# Altium footprint library st-microelectronics.PCBLIB: 49 footprints (part 4 of 4)
Each footprint in its own frame and in the unit in brackets; x right, y up, seen from the top. Pads: shape width x height; smd on the part's side, far side on the other; paste and mask are expansions set on the pad; w line width, h text height; cw(c..) or ccw(c..) is an arc to the next point about the centre after c.
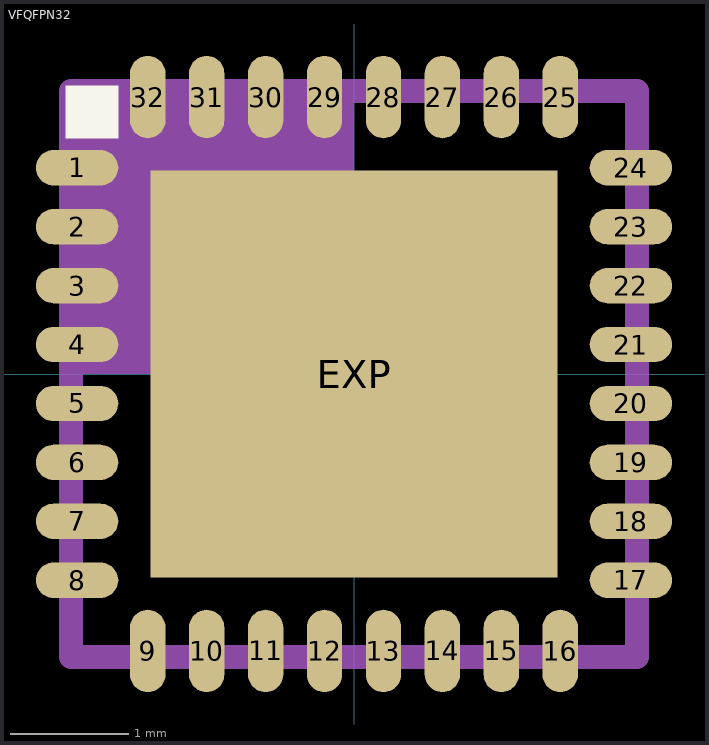
[diagram p3: the footprint, top view; thin cyan lines are the x and y axes]

## VFQFPN32 [mm]
pads (33):
  rrect100% 0.7x0.3 smd: 1(-2.35,1.75) 2(-2.35,1.25) 3(-2.35,0.75) 4(-2.35,0.25) 5(-2.35,-0.25) 6(-2.35,-0.75) 7(-2.35,-1.25) 8(-2.35,-1.75) 17(2.35,-1.75) 18(2.35,-1.25) 19(2.35,-0.75) 20(2.35,-0.25) 21(2.35,0.25) 22(2.35,0.75) 23(2.35,1.25) 24(2.35,1.75)
  rrect100% 0.3x0.7 smd: 9(-1.75,-2.35) 10(-1.25,-2.35) 11(-0.75,-2.35) 12(-0.25,-2.35) 13(0.25,-2.35) 14(0.75,-2.35) 15(1.25,-2.35) 16(1.75,-2.35) 25(1.75,2.35) 26(1.25,2.35) 27(0.75,2.35) 28(0.25,2.35) 29(-0.25,2.35) 30(-0.75,2.35) 31(-1.25,2.35) 32(-1.75,2.35)
  rect 3.45x3.45 smd: EXP(0,0)
Top Overlay:
  rectangle: -2.45,2 -2,2.45
Top Paste:
  rectangle: -1.5,0.25 -0.25,1.5
  rectangle: 0.25,0.25 1.5,1.5
  rectangle: 0.25,-1.5 1.5,-0.25
  rectangle: -1.5,-1.5 -0.25,-0.25
  lines w0.225: -2.55,-1.75 -2.15,-1.75 ; -2.55,-1.25 -2.15,-1.25 ; -2.55,-0.75 -2.15,-0.75 ; -2.55,-0.25 -2.15,-0.25 ; -2.55,0.25 -2.15,0.25 ; -2.55,0.75 -2.15,0.75 ; -2.55,1.25 -2.15,1.25 ; -2.55,1.75 -2.15,1.75 ; -1.75,-2.55 -1.75,-2.15 ; -1.75,2.15 -1.75,2.55 ; -1.25,-2.55 -1.25,-2.15 ; -1.25,2.15 -1.25,2.55 ; -0.75,-2.55 -0.75,-2.15 ; -0.75,2.15 -0.75,2.55 ; -0.25,-2.55 -0.25,-2.15 ; -0.25,2.15 -0.25,2.55 ; 0.25,-2.55 0.25,-2.15 ; 0.25,2.15 0.25,2.55 ; 0.75,-2.55 0.75,-2.15 ; 0.75,2.15 0.75,2.55 ; 1.25,-2.55 1.25,-2.15 ; 1.25,2.15 1.25,2.55 ; 1.75,-2.55 1.75,-2.15 ; 1.75,2.15 1.75,2.55 ; 2.15,-1.75 2.55,-1.75 ; 2.15,-1.25 2.55,-1.25 ; 2.15,-0.75 2.55,-0.75 ; 2.15,-0.25 2.55,-0.25 ; 2.15,0.25 2.55,0.25 ; 2.15,0.75 2.55,0.75 ; 2.15,1.25 2.55,1.25 ; 2.15,1.75 2.55,1.75
Top Solder:
  region: 0,0 0.254,0 0.254,0.254 0,0.254
  lines w0.35: -2.55,-1.75 -2.15,-1.75 ; -2.55,-1.25 -2.15,-1.25 ; -2.55,-0.75 -2.15,-0.75 ; -2.55,-0.25 -2.15,-0.25 ; -2.55,0.25 -2.15,0.25 ; -2.55,0.75 -2.15,0.75 ; -2.55,1.25 -2.15,1.25 ; -2.55,1.75 -2.15,1.75 ; -1.75,-2.55 -1.75,-2.15 ; -1.75,2.15 -1.75,2.55 ; -1.25,-2.55 -1.25,-2.15 ; -1.25,2.15 -1.25,2.55 ; -0.75,-2.55 -0.75,-2.15 ; -0.75,2.15 -0.75,2.55 ; -0.25,-2.55 -0.25,-2.15 ; -0.25,2.15 -0.25,2.55 ; 0.25,-2.55 0.25,-2.15 ; 0.25,2.15 0.25,2.55 ; 0.75,-2.55 0.75,-2.15 ; 0.75,2.15 0.75,2.55 ; 1.25,-2.55 1.25,-2.15 ; 1.25,2.15 1.25,2.55 ; 1.75,-2.55 1.75,-2.15 ; 1.75,2.15 1.75,2.55 ; 2.15,-1.75 2.55,-1.75 ; 2.15,-1.25 2.55,-1.25 ; 2.15,-0.75 2.55,-0.75 ; 2.15,-0.25 2.55,-0.25 ; 2.15,0.25 2.55,0.25 ; 2.15,0.75 2.55,0.75 ; 2.15,1.25 2.55,1.25 ; 2.15,1.75 2.55,1.75
Mechanical 16:
  rectangle: -2.45,0 0,2.45
  lines w0.203: -2.4,-2.4 2.4,-2.4 2.4,2.4 -2.4,2.4 -2.4,-2.4